# EAGLE library part 74LVC1G18 (library Hand_Solder_Special)
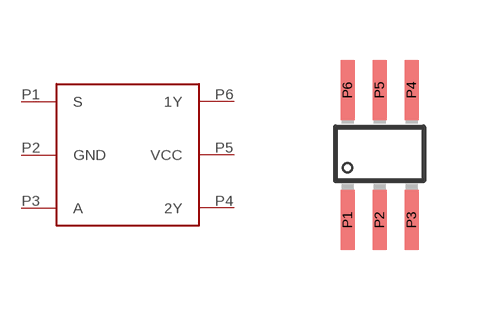
[diagram p0: symbol with the pads of 74LVC1G18; footprint 74LVC1G18]

Designator prefix -

## 74LVC1G18  [74LVC1G18]
P1  S
P2  GND
P3  A
P4  2Y
P5  VCC
P6  1Y

## Footprint 74LVC1G18 (pad centres in mm)
smd 0.35 x 1.5: P1 -0.8,-1.65; P2 0,-1.65; P3 0.8,-1.65; P4 0.8,1.6; P5 0,1.6; P6 -0.8,1.6